# EAGLE library part MICRO-SD (library ds_con)
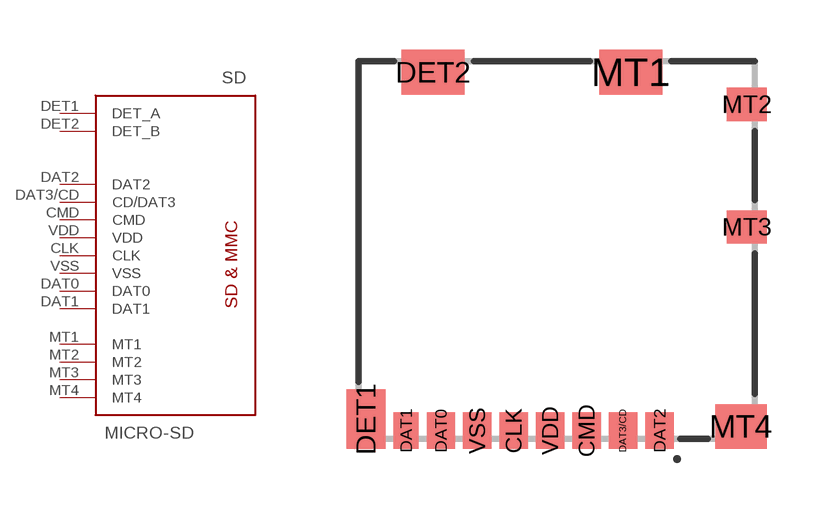
[diagram p7: symbol with the pads of MICROSD; footprint MICROSD]

Designator prefix SD

## MICRO-SD  [MICROSD]
CLK  CLK
CMD  CMD
DAT0  DAT0
DAT1  DAT1
DAT2  DAT2
DAT3/CD  CD/DAT3
DET1  DET_A
DET2  DET_B
MT1  MT1
MT2  MT2
MT3  MT3
MT4  MT4
VDD  VDD
VSS  VSS

## Footprint MICROSD (pad centres in mm)
smd 0.85 x 1.1: CLK -1.295,-5.294; CMD 0.905,-5.294; DAT0 -3.495,-5.294; DAT2 3.105,-5.294; DAT3/CD 2.005,-5.294; VDD -0.195,-5.294; VSS -2.395,-5.294
smd 0.75 x 1.1: DAT1 -4.545,-5.294
smd 1.17 x 1.8: DET1 -5.755,-4.944
smd 1.9 x 1.35: DET2 -3.73,5.531; MT1 2.24,5.531
smd 1.2 x 1: MT2 5.74,4.556; MT3 5.74,0.856
smd 1.55 x 1.35: MT4 5.565,-5.169